# Altium footprint library 继电器.PcbLib: 5 footprints
Each footprint in its own frame and in the unit in brackets; x right, y up, seen from the top. Pads: shape width x height; smd on the part's side, far side on the other; paste and mask are expansions set on the pad; w line width, h text height; cw(c..) or ccw(c..) is an arc to the next point about the centre after c.
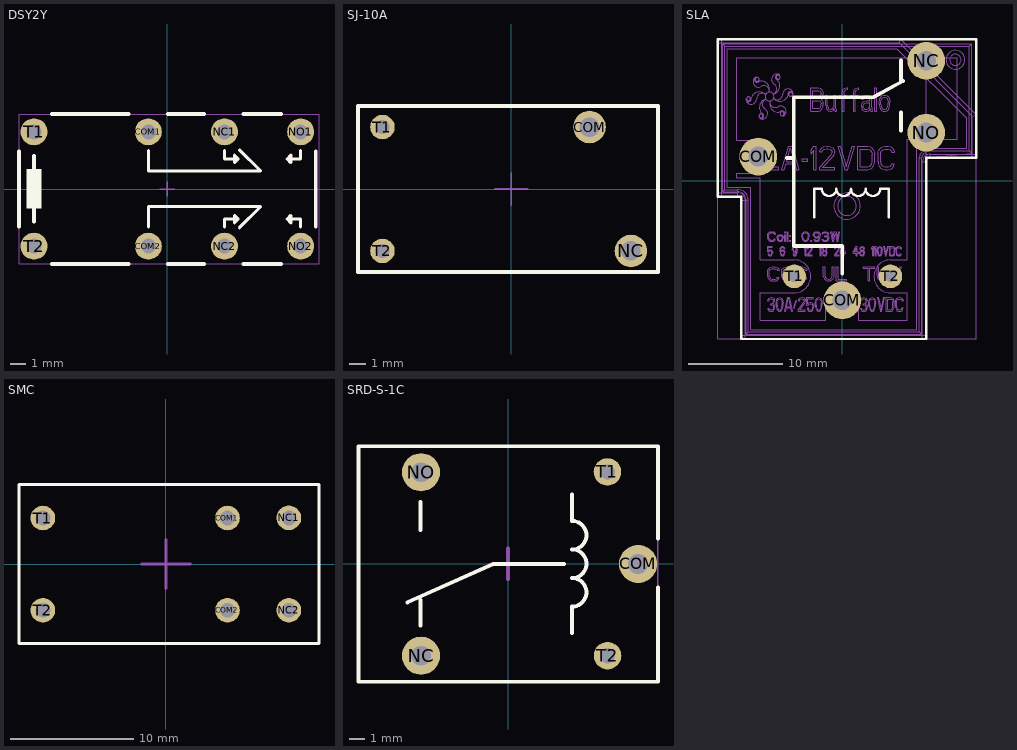
[diagram p0: the footprints below, top view; thin cyan lines are the x and y axes]

## DSY2Y [mm] "继电器"
height 11.6
pads (8):
  round 1.8 hole 1: COM1(-1.27,3.81) COM2(-1.27,-3.81) NC1(3.81,3.81) NC2(3.81,-3.81) NO1(8.89,3.81) NO2(8.89,-3.81) T1(-8.89,3.81) T2(-8.89,-3.81)
Top Overlay:
  rectangle: -9.398,-1.295 -8.382,1.321
  lines w0.2: -1.27,-2.54 -1.27,-1.168 6.223,-1.168 4.801,-2.591 ; -1.27,2.565 -1.27,1.194 6.223,1.194 4.801,2.616 ; 3.81,-2.54 3.81,-2.007 4.724,-2.007 ; 3.81,2.565 3.81,2.007 4.724,2.007 ; 8.89,-2.54 8.89,-2.007 7.976,-2.007 ; 8.89,2.565 8.89,2.007 7.976,2.007 ; 4.724,-2.007 4.47,-1.753 4.47,-2.261 4.724,-2.007 ; 4.724,2.007 4.47,2.261 4.47,1.753 4.724,2.007 ; 7.976,-2.007 8.23,-2.261 8.23,-1.753 7.976,-2.007 ; 7.976,2.007 8.23,1.753 8.23,2.261 7.976,2.007
  lines w0.254: -9.89,-2.5 -9.89,2.5 ; -8.89,-2.184 -8.89,-1.295 ; -8.89,1.321 -8.89,2.21 ; -7.696,-5 -2.591,-5 ; -7.696,5 -2.591,5 ; 0.025,-5 2.464,-5 ; 0.025,5 2.464,5 ; 5.055,-5 7.569,-5 ; 5.055,5 7.569,5 ; 9.89,-2.5 9.89,2.5
Mechanical 13:
  lines w0.05: -9.89,-5 10.11,-5 10.11,5 -9.89,5 -9.89,-5
Mechanical 15:
  lines w0.1: -0.5,0 0,0 ; 0,-0.5 0,0 ; 0,0.5 0,0 ; 0.508,0 0,0
3D body: height 11.61, standoff -3.4, extent -9.89,-5 10.11,5

## SJ-10A [mm] "三友SJ-10A单刀继电器"
height 15.5
pads (4):
  round 2 hole 1.2 unplated: COM(4.8,3.8) NC(7.34,-3.8)
  round 1.5 hole 0.85 unplated: T1(-7.9,3.8) T2(-7.9,-3.8)
Top Overlay:
  lines w0.254: -9.4,-5.1 -9.4,5.1 9,5.1 9,-5.1 -9.4,-5.1
Mechanical 13:
  lines w0.05: -9.4,-5.1 -9.4,5.1 9,5.1 9,-5.1 -9.4,-5.1
Mechanical 15:
  lines w0.1: -1,0 1,0 ; 0,-1 0,-0.1 0,1
3D body: height 15.5, standoff -4, extent -9.4,-5.1 9,5.1

## SLA [mm] "SLA继电器"
height 20
pads (6):
  round 4 hole 2.1: COM(-8.904,2.54) COM(0.004,-12.7) NC(8.904,12.7) NO(8.904,5.08)
  round 2.5 hole 1.2: T1(-5.094,-10.16) T2(5.104,-10.16)
Top Overlay:
  lines w0.254: -13.196,14.987 -13.196,14.6 -13.196,-1.7 -12.796,-1.7 -10.696,-1.7 -10.696,-2.1 -10.696,-16.797 ; -13.196,15 13.804,15 14.193,15 ; -10.693,-16.8 8.904,-16.8 ; -2.966,-3.915 -2.966,-0.867 -2.179,-0.867 ccw(c-1.405,-0.867) -0.63,-0.867 ccw(c0.145,-0.867) 0.919,-0.867 ccw(c1.694,-0.867) 2.468,-0.867 ccw(c3.244,-0.867) 4.018,-0.867 4.908,-0.867 4.908,-3.915 ; 8.904,-16.4 8.904,-16.8 ; 14.204,2.4 9.304,2.4 8.904,2.4 8.904,-16.8 ; 14.204,2.405 14.204,2.8 14.204,15
  lines w0.4: -5.856,2.384 -5.151,2.384 ; 0.006,-9.882 0.006,-6.937 -5.151,-6.937 -5.151,8.836 3.282,8.836 6.432,10.563 ; 6.229,5.305 6.229,7.236 ; 6.229,10.512 6.229,12.748
Mechanical 13:
  lines w0.1: -13.206,-16.79 -13.206,15.01 14.194,15.01 14.194,-16.79 -13.206,-16.79
Mechanical 15:
  drawing of 2022 lines, arcs and shapes, not listed
3D body: height 19.81, standoff -4, extent -13.206,-16.79 14.194,15.01

## SMC [mm] "双刀单掷继电器"
height 24.8
pads (6):
  round 2 hole 1.2 unplated: COM1(5.01,3.746) COM2(5.01,-3.754) NC1(10.002,3.754) NC2(10.002,-3.746) T1(-10.002,3.746) T2(-10.002,-3.754)
Top Overlay:
  lines w0.254: -11.948,-6.446 12.452,-6.446 12.452,6.459 -11.948,6.459 -11.948,-6.446
Mechanical 13:
  lines w0.1: -11.948,-6.446 -11.948,6.454 12.452,6.454 12.452,-6.446 -11.948,-6.446
Mechanical 15:
  lines w0.254: -2,0 2,0 ; 0,-2 0,2
3D body: height 24.9, standoff -3.9, extent -11.948,-6.446 12.452,6.459

## SRD-S-1C [mm] "三友 SRD-S-1（C）继电器"
height 15.5
pads (5):
  round 2.5 hole 1.3: COM(8.5,0) NC(-5.7,-6) NO(-5.7,6)
  round 1.8 hole 1: T1(6.496,6.02) T2(6.5,-6)
Top Overlay:
  lines w0.254: -6.588,-2.515 -0.974,0 3.649,0 ; -5.74,4.064 -5.724,2.21 ; -5.724,-4.013 -5.724,-2.337 ; 4.182,-4.523 4.182,-2.79 ccw(c4.182,-1.856) 4.182,-0.922 ; 4.182,-0.928 ccw(c4.182,0.012) 4.182,0.952 ; 4.182,0.946 ccw(c4.182,1.88) 4.182,2.813 4.182,4.547 ; 9.8,-1.524 9.8,-7.7 -9.8,-7.7 -9.8,7.7 9.8,7.7 9.8,1.651
Mechanical 13:
  lines w0.1: -9.821,-7.704 9.779,-7.704 9.779,7.696 -9.821,7.696 -9.821,-7.704
Mechanical 15:
  lines w0.254: -1,0 1,0 ; 0,-1 0,1
3D body: height 15.51, standoff -3.5, extent -9.821,-7.704 9.779,7.696